# EAGLE library part DIP-BLACK-FEMALE-HEADER(2X23P-2.54) (library Seeed-OPL-Connector)
320030002
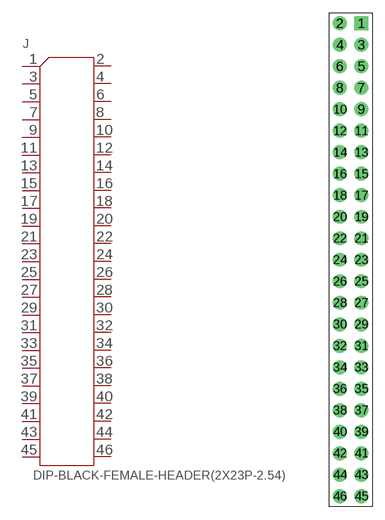
[diagram p158: symbol with the pads of H2X23-2.54; footprint H2X23-2.54]

Designator prefix J

## DIP-BLACK-FEMALE-HEADER(2X23P-2.54) (MPN: F185-1223A0ASYC1; VALUE: F185-1223A0ASYC1)  [H2X23-2.54]
1  P$1
2  P$2
3  P$3
4  P$4
5  P$5
6  P$6
7  P$7
8  P$8
9  P$9
10  P$10
11  P$11
12  P$12
13  P$13
14  P$14
15  P$15
16  P$16
17  P$17
18  P$18
19  P$19
20  P$20
21  P$21
22  P$22
23  P$23
24  P$24
25  P$25
26  P$26
27  P$27
28  P$28
29  P$29
30  P$30
31  P$31
32  P$32
33  P$33
34  P$34
35  P$35
36  P$36
37  P$37
38  P$38
39  P$39
40  P$40
41  P$41
42  P$42
43  P$43
44  P$44
45  P$45
46  P$46

## Footprint H2X23-2.54 (pad centres in mm)
drill 0.889 pad 1.651 square: 1 1.27,27.94
drill 0.889 pad 1.651: 2 -1.27,27.94; 3 1.27,25.4; 4 -1.27,25.4; 5 1.27,22.86; 6 -1.27,22.86; 7 1.27,20.32; 8 -1.27,20.32; 9 1.27,17.78; 10 -1.27,17.78; 11 1.27,15.24; 12 -1.27,15.24; 13 1.27,12.7; 14 -1.27,12.7; 15 1.27,10.16; 16 -1.27,10.16; 17 1.27,7.62; 18 -1.27,7.62; 19 1.27,5.08; 20 -1.27,5.08; 21 1.27,2.54; 22 -1.27,2.54; 23 1.27,0; 24 -1.27,0; 25 1.27,-2.54; 26 -1.27,-2.54; 27 1.27,-5.08; 28 -1.27,-5.08; 29 1.27,-7.62; 30 -1.27,-7.62; 31 1.27,-10.16; 32 -1.27,-10.16; 33 1.27,-12.7; 34 -1.27,-12.7; 35 1.27,-15.24; 36 -1.27,-15.24; 37 1.27,-17.78; 38 -1.27,-17.78; 39 1.27,-20.32; 40 -1.27,-20.32; 41 1.27,-22.86; 42 -1.27,-22.86; 43 1.27,-25.4; 44 -1.27,-25.4; 45 1.27,-27.94; 46 -1.27,-27.94